# EAGLE library part USB-C (library WorTel_Library)
Check availability <https://pricing.snapeda.com/parts/CSP-USC16-TR/Valcon/view-part?ref=eda>
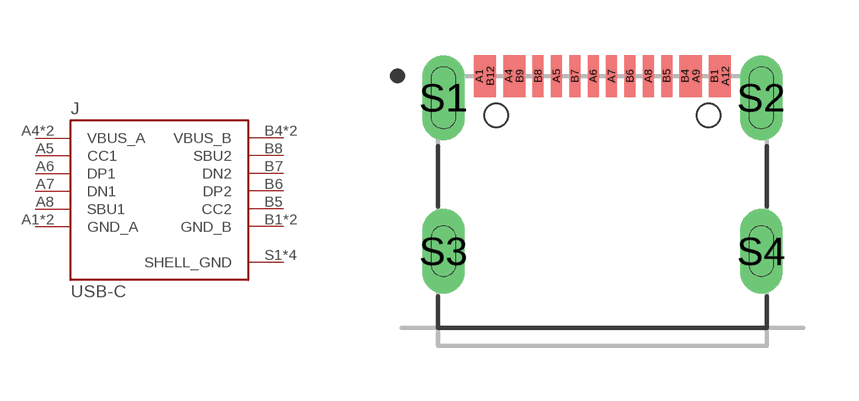
[diagram p2: symbol with the pads of USB-C-16P; footprint USB-C-16P]

Designator prefix J

## USB-C (AVAILABILITY: In Stock; CHECK_PRICES: https://www.snapeda.com/parts/CSP-USC16-TR/Valcon/view-part/?ref=eda; DESCRIPTION: CSP-USC16-TR Valcon USB Type C Surface Mount PCB Socket; MF: Valcon; MP: CSP-USC16-TR; PACKAGE: None; PRICE: None; SNAPEDA_LINK: https://www.snapeda.com/parts/CSP-USC16-TR/Valcon/view-part/?ref=snap)  [USB-C-16P]
A1  GND_A  pwr
A4  VBUS_A  pwr
A5  CC1
A6  DP1
A7  DN1
A8  SBU1
A9  VBUS_A  pwr
A12  GND_A  pwr
B1  GND_B  pwr
B4  VBUS_B  pwr
B5  CC2
B6  DP2
B7  DN2
B8  SBU2
B9  VBUS_B  pwr
B12  GND_B  pwr
S1  SHELL_GND  pwr
S2  SHELL_GND  pwr
S3  SHELL_GND  pwr
S4  SHELL_GND  pwr

## Footprint USB-C-16P (pad centres in mm)
smd 0.3 x 1.14: A1 -3.35,0; A4 -2.55,0; A5 -1.25,0; A6 -0.25,0; A7 0.25,0; A8 1.25,0; A9 2.55,0; A12 3.35,0; B1 3.05,0; B4 2.25,0; B5 1.75,0; B6 0.75,0; B7 -0.75,0; B8 -1.75,0; B9 -2.25,0; B12 -3.05,0
drill 0.65 pad 1 long: S1 -4.325,-0.59; S2 4.325,-0.59
drill 0.65 pad 0.9 long: S3 -4.325,-4.77; S4 4.325,-4.77
hole 0.65 at -2.89,-1.07
hole 0.65 at 2.89,-1.07